# Altium footprint library KEMET_C901U102MUVDBA7317.PcbLib: 1 footprints
Each footprint in its own frame and in the unit in brackets; x right, y up, seen from the top. Pads: shape width x height; smd on the part's side, far side on the other; paste and mask are expansions set on the pad; w line width, h text height; cw(c..) or ccw(c..) is an arc to the next point about the centre after c.
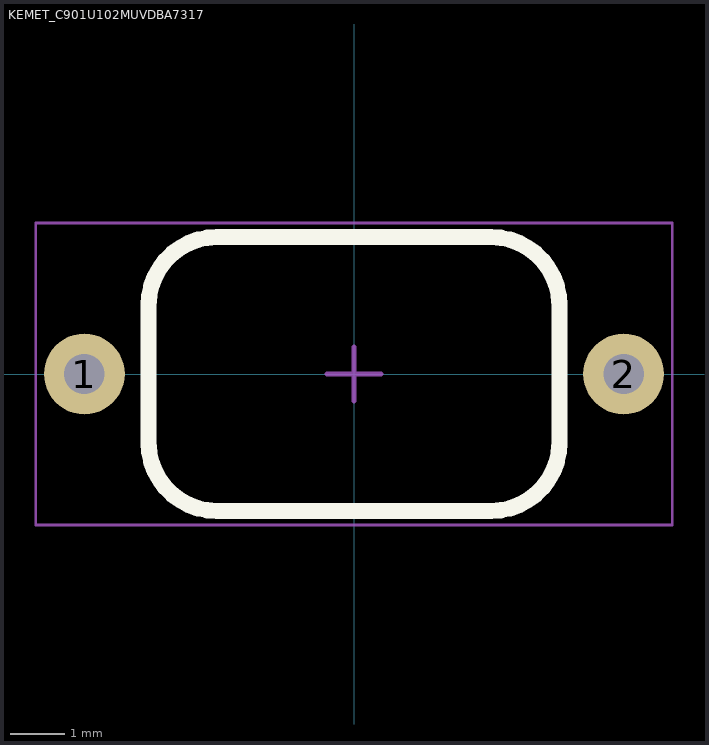
[diagram p0: the footprint, top view; thin cyan lines are the x and y axes]

## KEMET_C901U102MUVDBA7317 [mm] "KEMET_C901U102MUVDBA7317"
height 11
pads (2):
  round 1.5 hole 0.75 mask+0.05: 1(-5,0) 2(5,0)
Top Overlay:
  lines w0.3: -3.81,-1.27 ccw(c-2.54,-1.27) -2.54,-2.54 2.54,-2.54 ccw(c2.54,-1.27) 3.81,-1.27 3.81,1.27 ccw(c2.54,1.27) 2.54,2.54 -2.54,2.54 ccw(c-2.54,1.27) -3.81,1.27 -3.81,-1.27
Mechanical 15:
  lines w0.05: -5.9,-2.8 5.9,-2.8 5.9,2.8 -5.9,2.8 -5.9,-2.8
  lines w0.1: -0.5,0 0.5,0 ; 0,-0.5 0,0.5
3D body "KEMET_C901U102MUVDBA7317.step": height 10.99, standoff -19.8, extent -5.325,-2.75 5.325,2.755